# Altium schematic symbol library Inductors.SchLib: 1 symbol
Pins are listed as number, name and electrical type; pins without a type are passive.

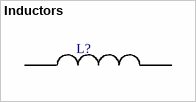
[diagram p0: symbol Inductors]

## Inductors
designator L?  (value not drawn)
Order: *
footprint 1210
footprint 0805 h 1.25 (Chip Inductor, 2-Leads, Body 2,00x1,25mm, IPC Medium Density)
footprint INDC1608X10N (Chip Inductor, 2-Leads, Body 1,60x0,80mm, IPC Medium Density)
footprint 0603 (Chip Inductor, 2-Leads, Body 1,60x0,80mm, IPC Medium Density)
footprint 0402
footprint 2220
footprint SRR1210 (Precision Wire Wound Inductor, 2-Leads, Body 11,75x11,75mm, IPC Medium Density)
pins: 1 23, 2 24